# Altium schematic symbol library LTEWlib.SchLib: 128 symbols (part 1 of 2)
Pins are listed as number, name and electrical type; pins without a type are passive.

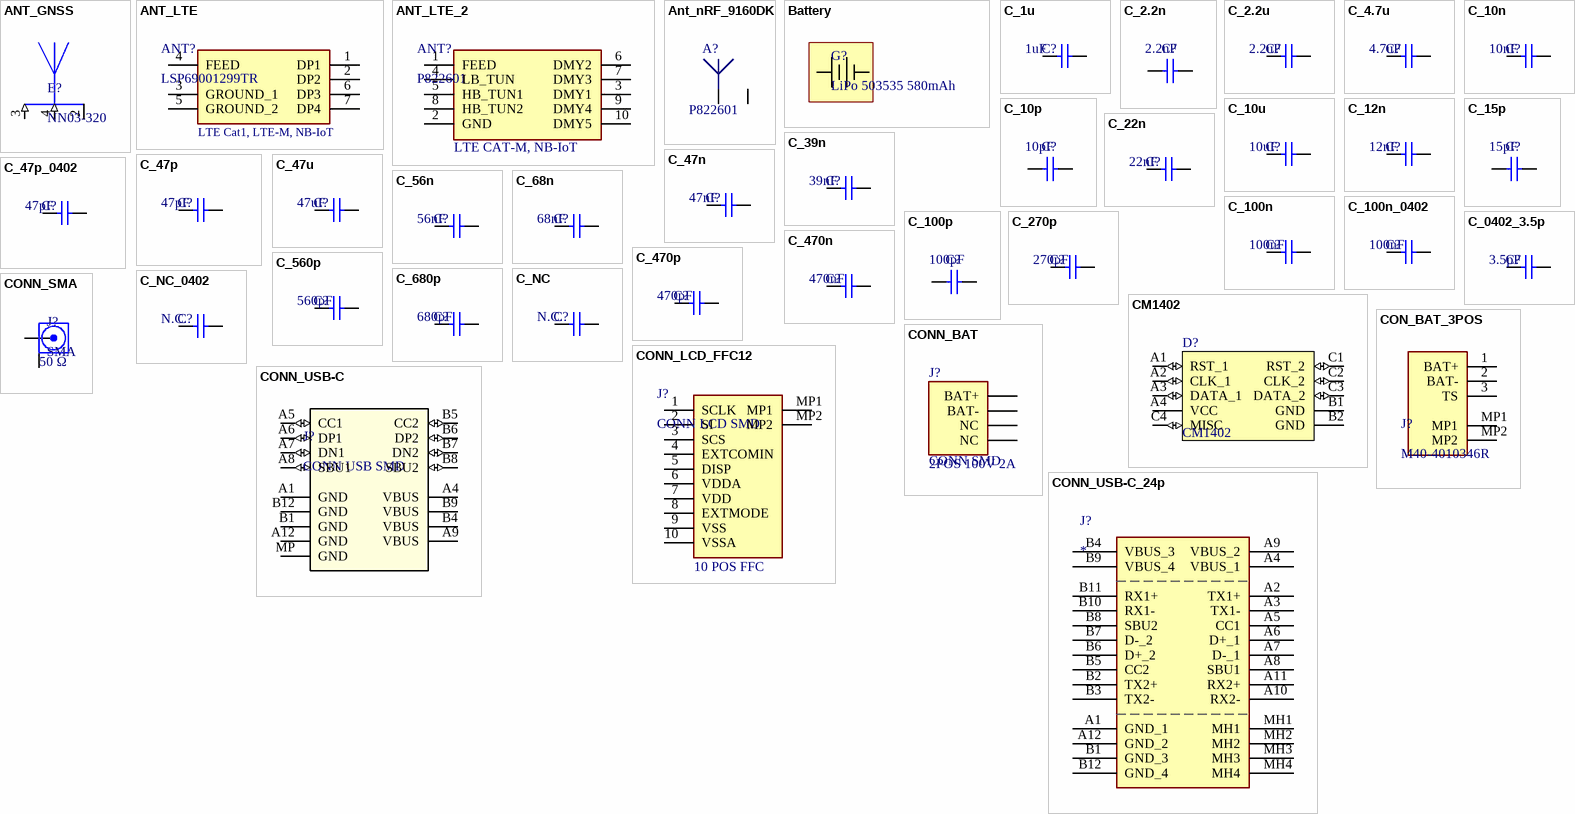
[diagram p0: symbols ANT_GNSS to CONN_USB-C_24p]

## ANT_GNSS
designator E?, comment NN03-320
Dual port antenna booster for GNSS, Bluetooth, 5G and UWB (1561 - 1606MHz, 2400 - 2500MHz, 3400 - 3800MHz, 3100 - 4800MHz and 6000 - 10600 MHz).; Manufacturer_Name: Ignion; SnapEDA_Link: https://www.snapeda.com/parts/NN03-320/Fractus%20Antennas%20S.L./view-part/4257250/?ref=snap; Purchase-URL: https://pricing.snapeda.com/search/part/NN03-320/?ref=eda; Availability: In Stock; MP: NN03-320; Value: *; Unit Price: 0.91; Package: None; Check_prices: https://www.snapeda.com/parts/NN03-320/Fractus%20Antennas%20S.L./view-part/4257250/?ref=eda; Supplier 1: Digi-Key; Supplier Part Number 1: 2115-NN03-320CT-ND; Manufacturer_Part_Number: NN03-320
footprint XCVR_NN03-320
pins: 2 GROUND (power), 3 FEED_BLUETOOTH (in), 4 FEED_GNSS (in)

## ANT_LTE
designator ANT?, comment LSP69001299TR  value LTE Cat1, LTE-M, NB-IoT
829MHz, 1.94GHz Cellular, LTE Cat 1, LTE-M, NB-IoT, loRa, SigFox Chip RF Antenna 698MHz ~ 960MHz, 1.71GHz ~ 2.17GHz -2dBi, 1.2dBi Solder Surface Mount; Manufacturer_Name: AVX; Datasheet Link: https://www.mouser.de/datasheet/2/40/AVX-E_LSP69001299TR-1772522.pdf; Height: 3.3mm; Manufacturer_Part_Number: LSP69001299TR; Mouser Part Number: 581-LSP69001299TR; Mouser Price/Stock: https://www.mouser.co.uk/ProductDetail/AVX/LSP69001299TR?qs=d0WKAl%252BL4KbuKFPrwvdB6g%3D%3D; Supplier 1: Digi-Key; Supplier Part Number 1: 478-LSP69001299TR-ND
footprint LSP69001299TR
pins: 1 DP1, 2 DP2, 3 GROUND_1, 4 FEED, 5 GROUND_2, 6 DP3, 7 DP4

## ANT_LTE_2
designator ANT?, comment P822601  value LTE CAT-M, NB-IoT
700MHz, 750MHz, 850MHz, 900MHz, 1.8GHz, 1.9GHz, 2.1GHz, 2.7GHz CDMA, DCS, EDGE, GPRS, GSM, HSDPA, LTE, PCS, UMTS, WCDMA Flat Bar RF Antenna 700MHz ~ 787MHz, 824MHz ~ 960MHz, 1.71GHz ~ 2.17GHz, 2.5GHz ~ 2.7GHz 1.1dBi, 1.7dBi, 1.8dBi, 2.2dBi, 3.9dBi, 3.8dBi, 3.4dBi, 3.6dBi Solder Surface Mount; Manufacturer_Name: AVX; Datasheet Link: http://datasheets.avx.com/ethertronics/AVX-E_P822601-P822602.pdf; Height: 3.5mm; Manufacturer_Part_Number: P822601; Mouser Part Number: 581-P822601; Mouser Price/Stock: https://www.mouser.co.uk/ProductDetail/AVX/P822601?qs=vdi0iO8H4N0igrTLYxGIXg%3D%3D; Arrow Part Number: P822601; Arrow Price/Stock: https://www.arrow.com/en/products/p822601/avx?region=nac; Supplier 1: Digi-Key; Supplier Part Number 1: 939-1057-1-ND
footprint P822601
pins: 1 FEED, 2 GND, 3 DMY1, 4 LB_TUN, 5 HB_TUN1, 6 DMY2, 7 DMY3, 8 HB_TUN2, 9 DMY4, 10 DMY5

## Ant_nRF_9160DK
designator A?, comment P822601
ANTENNA PRESTTA OCTABAND LTE; Manufacturer_Name: Ethertronics; Part number IPS: 00000009001; Note: N.A.; Pad Count: 2; Part Number: P822601; Manufacturer_Part_Number: P822601; Footprint Doc: P822601; LatestRevisionDate: 2017-07-28; Published: 2017-07-28; Value: P822601; Artikkelnr Noca: N.A.; ComponentLink1URL: N.A.; ComponentLink1Description: Datasheet; ComponentLink2URL: N.A.; ComponentLink2Description: Supplier link; HelpURL: http://www.ethertronics.com/wp-content/uploads/2016/11/Prestta-P822601-P822602-Standard-Cellular-Octa-Band-20160904.pdf; PartId: 100700043; Component Class: Antennas; Supplier 1: Digi-Key; Unit Price: 3.41; Supplier Part Number 1: 939-1057-1-ND
footprint P822601
pins: 1, 2

## Battery
designator G?, comment LiPo 503535 580mAh
503535 3.8v 580mAh round lipo battery cells / (Order : shorturl.at/tEFMZ); ComponentLink1Description: Order; ComponentLink1URL: https://batteryzone.de/products/503535-580mah-hochspannung-3-8v-runde-polymer-smart-watch-moxibustion-instrument-auto-smart-box-batterie?_pos=1&_sid=59cfd2d74&_ss=r; Value: LiPo 503535 580mAh; Unit Price: 12.50; Manufacturer_Part_Number: https://batteryzone.de/products/503535-580mah-hochspannung-3-8v-runde-polymer-smart-watch-moxibustion-instrument-auto-smart-box-batterie?_pos=1&_sid=59cfd2d74&_ss=r; Manufacturer_Name: -; Supplier Part Number 1: https://batteryzone.de/products/503535-580mah-hochspannung-3-8v-runde-polymer-smart-watch-moxibustion-instrument-auto-smart-box-batterie?_pos=1&_sid=59cfd2d74&_ss=r
footprint Battery_Lipo_503535 (580mAh)

## C_1u
designator C?, comment 1uF
1 µF ±10% 25V Ceramic Capacitor X7R 0603 (1608 Metric); Manufacturer_Part_Number: CL10B105KA8NNNC; Manufacturer_Name: Samsung Electro-Mechanics; Value: 1uF; Supplier 1: Mouser; Supplier Part Number 1: 187-CL10B105KA8NNNC; Price Unit: 0.10
footprint C0603 (SMD 0603)
pins: 1, 2

## C_2.2n
designator C?, comment 2.2nF
2200 pF ±5% 25V Ceramic Capacitor X7R 0603 (1608 Metric); Manufacturer_Part_Number: 06033C222JAT2A; Manufacturer_Name: KYOCERA AVX; Value: 2.2nF; Unit Price: 0.10; Supplier 1: Digi-Key; Supplier Part Number 1: 478-12683-1-ND
footprint C0603 (SMD 0603)
pins: 1, 2

## C_2.2u
designator C?, comment 2.2uF
2.2 µF ±20% 25V Ceramic Capacitor X7R 0603 (1608 Metric); Manufacturer_Part_Number: GRM188Z71E225ME43D; Manufacturer_Name: Murata Electronics; Value: 2.2uF; Supplier 1: Digi-Key; Supplier Part Number 1: 490-GRM188Z71E225ME43DCT-ND; Unit Price: 0.240
footprint CAPC2012X11L
pins: 1, 2

## C_4.7u
designator C?, comment 4.7uF
4.7 µF ±10% 25V Condensateurs céramique X6S 0603 (1608 métrique); Manufacturer_Part_Number: GRM188C81E475KE11D; Manufacturer_Name: Murata Electronics; Supplier 1: Digi-Key; Value: 4.7uF; Supplier Part Number 1: 490-7199-1-ND; Unit Price: 0.24
footprint C0603 (SMD 0603)
pins: 1, 2

## C_10n
designator C?, comment 10nF
10000 pF ±5% 25V Condensateurs céramique C0G, NP0 0603 (1608 métrique); Manufacturer_Part_Number: C1608C0G1E103J080AA; Manufacturer_Name: TDK Corporation; Value: 10nF; Supplier 1: Digi-Key; Supplier Part Number 1: 445-2664-1-ND; Unit Price: 0.270
footprint C0603 (SMD 0603)
pins: 1, 2

## C_10p
designator C?, comment 10pF
10 pF ±5% 50V Ceramic Capacitor C0G, NP0 0603 (1608 Metric); Manufacturer_Part_Number: 06035A100JAT2A; Manufacturer_Name: KYOCERA AVX; Supplier 1: Digi-Key; Value: 10pF; Supplier Part Number 1: 478-1163-1-ND; Unit Price: 0.10
footprint C0603 (SMD 0603)
pins: 1, 2

## C_10u
designator C?, comment 10uF
10 µF ±10% 25V Ceramic Capacitor X5R 0805 (2012 Metric); Manufacturer_Part_Number: GRM188R61E106KA73J; Manufacturer_Name: Murata Electronics; Supplier 1: Mouser; Value: 10uF; Supplier Part Number 1: 81-GRM188R61E106KA3J; Unit Price: 0.280
footprint C0603 (SMD 0603)
pins: 1, 2

## C_12n
designator C?, comment 12nF
0.012 µF ±10% 25V Ceramic Capacitor X7R 0603 (1608 Metric); Manufacturer_Part_Number: CC0603KRX7R8BB123; Manufacturer_Name: YAGEO; Value: 12nF; Supplier 1: Digi-Key; Supplier Part Number 1: 311-3371-1-ND; Unit Price: 0.110
footprint C0603 (SMD 0603)
pins: 1, 2

## C_15p
designator C?, comment 15pF
15 pF ±5% 25V Ceramic Capacitor C0G, NP0 0603 (1608 Metric); Manufacturer_Part_Number: 06033A150JAT2A; Manufacturer_Name: KYOCERA AVX; Value: 15pF; Supplier 1: Digi-Key; Supplier Part Number 1: 478-10804-1-ND; Unit Price: *
footprint C0603 (SMD 0603)
pins: 1, 2

## C_22n
designator C?, comment 22nF
0.022 µF ±10% 25V Ceramic Capacitor X7R 0603 (1608 Metric); Manufacturer_Part_Number: C0603C223K3RAC7867; Manufacturer_Name: KEMET; Value: 22nF; Supplier 1: Digi-Key; Supplier Part Number 1: 399-C0603C223K3RAC7867CT-ND; Unit Price: 0.100
footprint C0603 (SMD 0603)
pins: 1, 2

## C_39n
designator C?, comment 39nF
0.039 µF ±10% 50V Ceramic Capacitor X7R 0603 (1608 Metric); Manufacturer_Part_Number: 0603B393K500CT; Manufacturer_Name: Walsin Technology Corporation; Value: 39nF; Unit Price: 0.10; Supplier 1: Digi-Key; Supplier Part Number 1: 1292-1436-1-ND
footprint C0603 (SMD 0603)
pins: 1, 2

## C_47n
designator C?, comment 47nF
0.047 µF ±10% 25V Ceramic Capacitor X7R 0603 (1608 Metric); Manufacturer_Part_Number: 06033C473KAT2A; Manufacturer_Name: KYOCERA AVX; Value: 47nF; Unit Price: 0.10; Supplier 1: Digi-Key; Supplier Part Number 1: 478-1235-6-ND
footprint C0603 (SMD 0603)
pins: 1, 2

## C_47p
designator C?, comment 47pF
47 pF ±5% 25V Ceramic Capacitor C0G, NP0 0603 (1608 Metric); Manufacturer_Part_Number: C0603C470J3GAC7867; Manufacturer_Name: KEMET; Value: 47pF; Supplier 1: Digi-Key; Supplier Part Number 1: 399-C0603C470J3GAC7867CT-ND; Unit Price: 0.130
footprint C0603 (SMD 0603)
pins: 1, 2
text: /

## C_47p_0402
designator C?, comment 47pF
47 pF ±5% 25V Ceramic Capacitor C0G, NP0 0402 (1005 Metric); Manufacturer_Part_Number: 0402N470J250CT; Manufacturer_Name: KEMET; Value: 47pF; Unit Price: 0.130; Supplier 1: Digi-Key; Supplier Part Number 1: 1292-1324-1-ND
footprint CAPC1005X55N
pins: 1, 2
text: /

## C_47u
designator C?, comment 47uF
47 µF ±20% 10V Ceramic Capacitor X5R 0805 (2012 Metric); Manufacturer_Part_Number: GRM21BR61A476ME15L; Manufacturer_Name: Murata Electronics; Value: 47uF; Supplier 1: Digi-Key; Supplier Part Number 1: 490-9961-1-ND; Unit Price: 0.66
footprint CAPC2012X11L
pins: 1, 2

## C_56n
designator C?, comment 56nF
0.056 µF ±10% 25V Ceramic Capacitor X7R 0603 (1608 Metric); Manufacturer_Part_Number: CC0603KRX7R8BB563; Manufacturer_Name: YAGEO; Value: 56nF; Supplier 1: Digi-Key; Supplier Part Number 1: 311-4089-1-ND; Unit Price: 0.10
footprint C0603 (SMD 0603)
pins: 1, 2

## C_68n
designator C?, comment 68nF
0.068 µF ±10% 25V Ceramic Capacitor X7R 0603 (1608 Metric); Manufacturer_Part_Number: 0603B683K250CT; Manufacturer_Name: Walsin Technology Corporation; Value: 68nF; Unit Price: 0.10; Supplier 1: Digi-Key; Supplier Part Number 1: 1292-1462-1-ND
footprint C0603 (SMD 0603)
pins: 1, 2

## C_100n
designator C?, comment 100nF
0.1 µF ±10% 25V Condensateurs céramique X7R 0603 (1608 métrique); Manufacturer_Part_Number: CL10B104KA8NNNC; Manufacturer_Name: Samsung Electro-Mechanics; Supplier 1: Digi-Key; Value: 100nF; Supplier Part Number 1: 1276-1006-1-ND; Unit Price: 0.10
footprint C0603 (SMD 0603)
pins: 1, 2

## C_100n_0402
designator C?, comment 100nF
0.1 µF ±10% 25V Ceramic Capacitor X7R 0402 (1005 Metric); Manufacturer_Part_Number: CL05B104KA5NNNC; Manufacturer_Name: Samsung Electro-Mechanics; Value: 100nF; Unit Price: 0.10; Supplier 1: Digi-Key; Supplier Part Number 1: 1276-6720-1-ND
footprint C0603 (SMD 0603)
pins: 1, 2

## C_100p
designator C?, comment 100pF
100 pF ±5% 25V Ceramic Capacitor C0G, NP0 0603 (1608 Metric); Manufacturer_Part_Number: 06033A101JAT2A; Manufacturer_Name: KYOCERA AVX; Value: 100pF; Unit Price: 0.10; Supplier 1: Digi-Key; Supplier Part Number 1: 478-06033A101JAT2ACT-ND
footprint C0603 (SMD 0603)
pins: 1, 2

## C_270p
designator C?, comment 270pF
270 pF ±1% 25V Ceramic Capacitor C0G, NP0 0603 (1608 Metric); Manufacturer_Part_Number: VJ0603A271FXXCW1BC; Manufacturer_Name: Vishay Vitramon; Value: 270pF; Supplier 1: Digi-Key; Supplier Part Number 1: 720-VJ0603A271FXXCW1BCCT-ND; Unit Price: 0.300
footprint C0603 (SMD 0603)
pins: 1, 2

## C_0402_3.5p
designator C?, comment 3.5pF
3.5 pF ±0,1pF 50V Condensateurs céramique C0G, NP0 0402 (1005 métrique); Manufacturer_Part_Number: GJM1555C1H3R5BB01D; Manufacturer_Name: Murata Electronics; Value: 3.5pF; Supplier 1: Mouser; Supplier Part Number 1: 81-GJM1555C1H3R5BB1D; Unit Price: 0.180
footprint CAPC1005X55N
pins: 1, 2

## C_470n
designator C?, comment 470nF
0.47 µF ±10% 25V Ceramic Capacitor X7R 0603 (1608 Metric); Manufacturer_Part_Number: GRM188R71E474KA12D; Manufacturer_Name: Murata Electronics; Value: 470nF; Supplier 1: Digi-Key; Supplier Part Number 1: 490-3291-1-ND; Unit Price: 0.17
footprint C0603 (SMD 0603)
pins: 1, 2

## C_470p
designator C?, comment 470pF
470 pF ±10% 50V Ceramic Capacitor X7R 0603 (1608 Metric); Manufacturer_Part_Number: C0603C471K5RAC7867; Manufacturer_Name: KEMET; Value: 470pF; Supplier 1: Digi-Key; Supplier Part Number 1: 399-C0603C471K5RAC7867TR-ND; Unit Price: 0.10
footprint C0603 (SMD 0603)
pins: 1, 2

## C_560p
designator C?, comment 560pF
560 pF ±5% 25V Ceramic Capacitor C0G, NP0 0603 (1608 Metric); Manufacturer_Part_Number: CC0603JRNPO8BN561; Manufacturer_Name: YAGEO; Value: 560pF; Supplier 1: Digi-Key; Supplier Part Number 1: 311-3957-1-ND; Unit Price: 0.110
footprint C0603 (SMD 0603)
pins: 1, 2

## C_680p
designator C?, comment 680pF
680 pF ±10% 25V Ceramic Capacitor X7R 0603 (1608 Metric); Manufacturer_Part_Number: 06033C681K4Z2A; Manufacturer_Name: KYOCERA AVX; Value: 680pF; Supplier 1: Digi-Key; Supplier Part Number 1: 478-06033C681K4Z2ACT-ND; Unit Price: 0.11
footprint C0603 (SMD 0603)
pins: 1, 2

## C_NC
designator C?, comment N.C.
NC; Value: N.C.
footprint C0603 (SMD 0603)
pins: 1, 2

## C_NC_0402
designator C?, comment N.C.
NC; Value: N.C.
footprint CAPC1005X55N
pins: 1, 2

## CM1402
designator D?
EMI Network Filter Arrays SIM CARD EMI FILTER WITH ESD PROTECTION; Manufacturer: ON Semiconductor; Manufacturer Part Number: CM1402-03CP; Part number IPS: 00000009949; Note: N.A.; Pad Count: 10; Part Number: CM1402; Footprint Doc: CM1402; LatestRevisionDate: 2017-02-06; Published: 2017-02-06; Value: CM1402; Artikkelnr Noca: N.A.; ComponentLink1URL: N.A.; ComponentLink1Description: Datasheet; ComponentLink2URL: N.A.; ComponentLink2Description: Supplier link; HelpURL: http://www.onsemi.com/pub_link/Collateral/CM1402-D.PDF; Supplier 1: Digi-Key; Supplier Part Number 1: CM1402-03CPOSTR-ND; Supplier 2: Mouser; Supplier Part Number 2: 748-CM1402-03CP; PartId: 101300139; Component Class: Semiconductors
footprint CM1402
pins: A1 RST_1 (io), A2 CLK_1 (io), A3 DATA_1 (io), A4 VCC (power), B1 GND (power), B2 GND (power), C1 RST_2 (io), C2 CLK_2 (io), C3 DATA_2 (io), C4 MISC (io)

## CON_BAT_3POS
designator J?, comment M40-4010346R
Connector Header Surface Mount, Right Angle 3 position 0.039" (1.00mm); Manufacturer_Name: Harwin; Datasheet Link: https://cdn.harwin.com/pdfs/M40-401.pdf; Height: 3.25mm; Manufacturer_Part_Number: M40-4010346R; Mouser Part Number: 855-M40-4010346R; Mouser Price/Stock: https://www.mouser.co.uk/ProductDetail/Harwin/M40-4010346R?qs=ulE8k0yEMYbY8tNiZulTaA%3D%3D; Supplier 1: Digi-Key; Supplier Part Number 1: M40-4010346R-ND
footprint M404010346R
pins: 1 BAT+, 2 BAT-, 3 TS, MP1, MP2

## CONN_BAT
designator J?, comment CONN SMD  value 2POS 100V 2A
Connector Header Surface Mount, Right Angle 2 position 0.079" (2.00mm); Manufacturer_Name: Wurth Elektronik; Manufacturer_Part_Number: 620102131822; Datasheet Link: https://componentsearchengine.com/Datasheets/2/620102131822.pdf; Height: 5.8mm; Mouser Part Number: 710-620102131822; Mouser Price/Stock: https://www.mouser.co.uk/ProductDetail/Wurth-Elektronik/620102131822?qs=ZtY9WdtwX54K2dkLvxjzuQ%3D%3D; Supplier 1: Digi-Key; Supplier Part Number 1: 732-2711-1-ND
footprint 620102131822
pins: 1 BAT+ (power), 2 BAT- (power), 3 NC, 4 NC

## CONN_LCD_FFC12
designator J?, comment CONN LCD SMD  value 10 POS FFC
10 Position FFC, FPC Connector Contacts, Top 0.020" (0.50mm) Surface Mount, Right Angle; Manufacturer_Name: Hirose; Manufacturer_Part_Number: FH12A-10S-0.5SH(55); Datasheet Link: https://componentsearchengine.com/Datasheets/1/FH12A-10S-0.5SH(55).pdf; Height: 3.6mm; Supplier 1: Digi-Key; Supplier Part Number 1: HFK110CT-ND; Unit Price: 1.34
footprint FH12A10S05SH55
pins: 1 SCLK, 2 SI, 3 SCS, 4 EXTCOMIN, 5 DISP, 6 VDDA, 7 VDD, 8 EXTMODE, 9 VSS, 10 VSSA, MP1, MP2

## CONN_SMA
designator J?, comment SMA  value 50 Ω
SMA Connector Jack, Female Socket 50Ohm Surface Mount Solder; Manufacturer_Name: Molex; Manufacturer_Part_Number: 73251-1352; Datasheet Link: http://www.molex.com/webdocs/datasheets/pdf/en-us//0732511352_RF_COAX_CONNECTORS.pdf; Supplier 1: Digi-Key; Supplier Part Number 1: WM9357-ND; Unit Price: 5.02
footprint 73251-1350
footprint 73251-1350 - GNSS
footprint 73251-1350 - LTE
pins: 1, 2, 3, 4, 5

## CONN_USB-C
designator J?, comment CONN USB SMD
USB-C (USB TYPE-C) USB 2.0 Prise Connecteur 24 (16+8 Factice) Positions Montage en surface à angle droit; Mfr_Name: Global Connector Technology; Manufacturer_Part_Number: USB4110-GF-A; Value: USB2.0 TYP C 24P; Copyright: Copyright (C) 2022 Ultra Librarian. All rights reserved.; RefDes: RefDes; Type: DEV; Supplier 1: Farnell; Supplier Part Number 1: 3583367
footprint USB4110GFA
pins: A1 GND, A4 VBUS (power), A5 CC1 (io), A6 DP1 (io), A7 DN1 (io), A8 SBU1 (io), A9 VBUS (power), A12 GND, B1 GND, B4 VBUS (power), B5 CC2 (io), B6 DP2 (io), B7 DN2 (io), B8 SBU2 (io), B9 VBUS (power), B12 GND, MP GND

## CONN_USB-C_24p
designator J?
USB-C (USB TYPE-C) USB 3.2 Gen 2 (USB 3.1 Gen 2, Superspeed + (USB 3.1)) Receptacle Connector 24 Position Surface Mount, Right Angle; Through Hole; Manufacturer: Amphenol Communication Solutions; Manufacturer_Part_Number: 12401598E4#2A; Datasheet Link: https://cdn.amphenol-icc.com/media/wysiwyg/files/drawing/12401598xxx2a.pdf; Height: 3.43mm; Supplier 1: Mouser; Supplier Part Number 1: 523-12401598E4#2A; Unit Price: 1.61
footprint 12401598E42A
footprint 12401598E42A - JTAG
footprint 12401598E42A - USB
pins: A1 GND_1, A2 TX1+, A3 TX1-, A4 VBUS_1, A5 CC1, A6 D+_1, A7 D-_1, A8 SBU1, A9 VBUS_2, A10 RX2-, A11 RX2+, A12 GND_2, B1 GND_3, B2 TX2+, B3 TX2-, B4 VBUS_3, B5 CC2, B6 D+_2, B7 D-_2, B8 SBU2, B9 VBUS_4, B10 RX1-, B11 RX1+, B12 GND_4, MH1, MH2, MH3, MH4

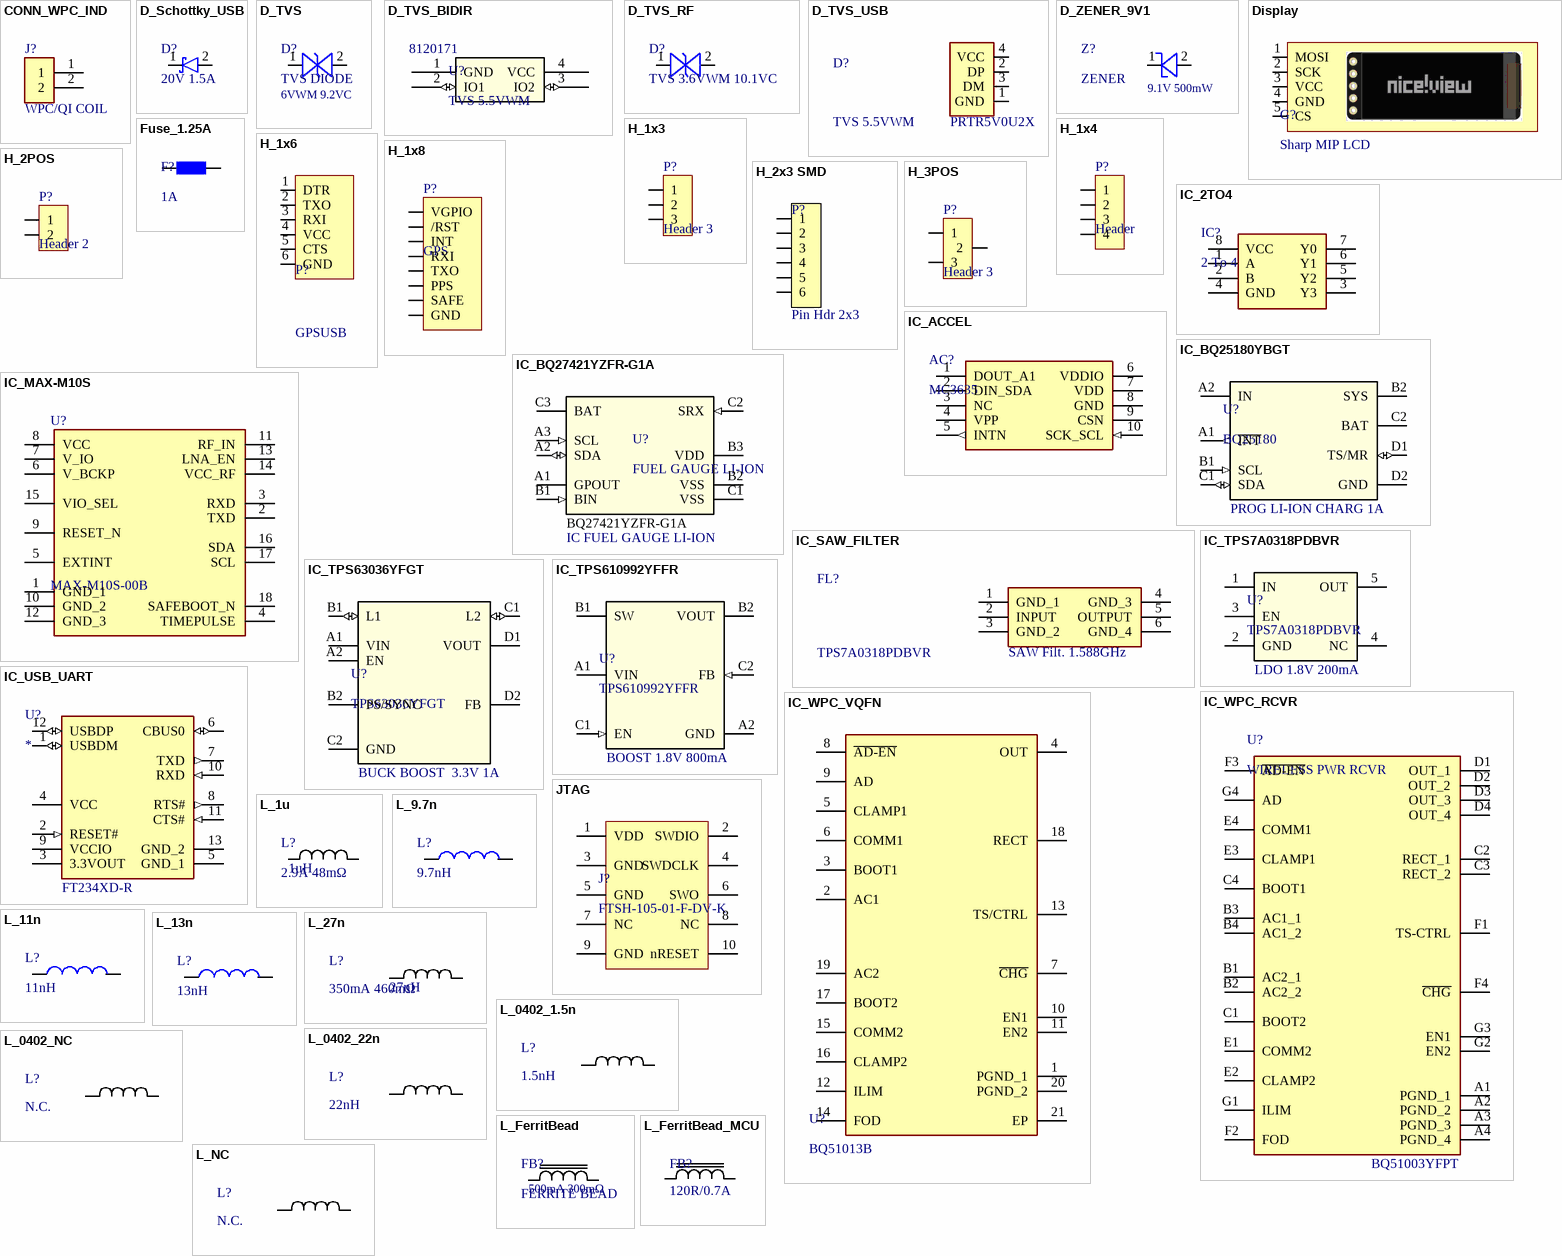
[diagram p1: symbols CONN_WPC_IND to L_NC]

## CONN_WPC_IND
designator J?, comment WPC/QI COIL
2 Position Wire to Board Terminal Block Horizontal with Board 0.138" (3.50mm) Surface Mount; Manufacturer_Name: TE Connectivity; Manufacturer_Part_Number: 2383942-2; Datasheet Link: https://www.te.com/commerce/DocumentDelivery/DDEController?Action=showdoc&DocId=Customer+Drawing%7F2383942%7FA1%7Fpdf%7FEnglish%7FENG_CD_2383942_A1.pdf%7F2383942-2; Height: 8.65mm; Supplier 1: Digi-Key; Supplier Part Number 1: 17-2383942-2CT-ND; Unit Price: 2.77
footprint 23839422
pins: 1, 2

## D_Schottky_USB
designator D?, comment 20V 1.5A
Diode Schottky 20 V 1.5A Surface Mount CST2C; Manufacturer_Name: Toshiba; Manufacturer_Part_Number: CCS15S30,L3F; Datasheet Link: https://toshiba.semicon-storage.com/info/docget.jsp?did=13923&prodName=CCS15S30; Height: 0.5mm; Supplier 1: Digi-Key; Supplier Part Number 1: CCS15S30L3FCT-ND; Unit Price: 0.39
footprint CCS15S30L3F
pins: 1 K, 2 A

## D_TVS
designator D?, comment TVS DIODE  value 6VWM 9.2VC
9.2V Clamp 5A (8/20µs) Ipp Tvs Diode Surface Mount SOD-882; Manufacturer_Name: LITTELFUSE; Manufacturer_Part_Number: SP1007-01ETG; Datasheet Link: https://www.littelfuse.com/~/media/electronics/datasheets/tvs_diode_arrays/littelfuse_tvs_diode_array_sp1007_datasheet.pdf.pdf; Height: 0.6mm; Supplier 1: Digi-Key; Supplier Part Number 1: F6187CT-ND; Unit Price: 0.40
footprint SP100701ETG
pins: 1, 2

## D_TVS_BIDIR
designator U?, comment TVS 5.5VWM  Supplier Part Number 1: 8120171
Clamp Ipp Tvs Diode Surface Mount 4-SOP; Manufacturer_Name: Texas Instruments; Manufacturer_Part_Number: TPD2E001DZDR; Copyright: Copyright (C) 2022 Ultra Librarian. All rights reserved.; Type: DEV; Unit Price: 0.748; Supplier 1: RSComponents
footprint DZD4
pins: 1 GND (power), 2 IO1 (io), 3 IO2 (io), 4 VCC (power)

## D_TVS_RF
designator D?, comment TVS 3.6VWM 10.1VC
10.1V Clamp 1.7A (8/20µs) Ipp Tvs Diode Surface Mount 2-X2SON (0.6x0.3); Manufacturer_Name: LITTELFUSE; Manufacturer_Part_Number: TPD1E0B04DPLT; Datasheet Link: https://www.ti.com/lit/gpn/tpd1e0b04?HQS=ti-null-null-sf-df-pf-sep-wwe&DCM=yes; Height: 0.32mm; Supplier 1: Digi-Key; Supplier Part Number 1: 296-44593-1-ND; Unit Price: 0.94
footprint TPD1E0B04DPLT
pins: 1, 2

## D_TVS_USB
designator D?, comment TVS 5.5VWM  Manufacturer_Part_Number: PRTR5V0U2X
Clamp Ipp Tvs Diode Surface Mount SOT-143B; Manufacturer_Name: Nexperia; Datasheet Link: https://assets.nexperia.com/documents/data-sheet/PRTR5V0U2X.pdf; Height: 1.1mm; Supplier 1: Digi-Key; Supplier Part Number 1: 1727-3884-1-ND; Unit Price: 0.52
footprint PRTR5V0U2X
pins: 1 GND, 2 DP, 3 DM, 4 VCC (power)

## D_ZENER_9V1
designator Z?, comment ZENER  value 9.1V 500mW
Zener Diode 9.1 V 500 mW ±6% Surface Mount SOD-123; Manufacturer_Name: Diodes Inc.; Manufacturer_Part_Number: BZT52C9V1S-7-F; Datasheet Link: https://www.diodes.com/assets/Datasheets/ds18004.pdf; Height: 1.45mm; Supplier 1: Digi-Key; Supplier Part Number 1: BZT52C9V1-FDICT-ND; Unit Price: 0.30
footprint SOD3716X145N
pins: 1 K, 2 A

## Display
designator G?, comment Sharp MIP LCD
503535 3.8v 580mAh round lipo battery cells / (Order : shorturl.at/tEFMZ); Manufacturer_Part_Number: LS011B7DH03; ComponentLink1Description: Order; ComponentLink1URL: https://keycapsss.com/keyboard-parts/parts/219/nice-view-1.08-e-paper-display; Value: Sharp MIP LCD; ComponentLink2Description: Info; ComponentLink2URL: https://nicekeyboards.com/docs/nice-view/getting-started/; Manufacturer_Name: Sharp; Unit Price: 21.00; Supplier Part Number 1: https://keycapsss.com/keyboard-parts/parts/219/nice-view-1.08-e-paper-display
footprint SHARP_MIP_LCD (Connector; Header; 3 Position)
pins: 1 MOSI, 2 SCK, 3 VCC, 4 GND, 5 CS

## Fuse_1.25A
designator F?, comment 1A
1.25 A AC 32 V DC Fuse Board Mount (Cartridge Style Excluded) Surface Mount 0603 (1608 Metric); Manufacturer_Part_Number: SF-0603S125-2; Manufacturer_Name: Bourns Inc.; Value: 1A; Unit Price: 0.79; Supplier 1: Digi-Key; Supplier Part Number 1: SF-0603S125-2CT-ND
simulation model FUSE (Spice Subcircuit)
footprint C0603 (SMD 0603)
pins: 1, 2

## H_1x3
designator P?, comment Header 3
Header, 3-Pin; Manufacturer_Name: Harwin Inc.; Manufacturer_Part_Number: M20-9990345; Publisher: Altium Limited; Supplier 1: Digi-key; Supplier Part Number 1: 952-2263-ND; Unit Price: 0.17
footprint HDR1X3 (Connector; Header; 3 Position)
signal-integrity model Connector
footprint HDR1X3 - COEX (Connector; Header; 3 Position)
footprint HDR1X3 - DISP_EN (Connector; Header; 3 Position)
footprint HDR1X3 - EXT_MODE (Connector; Header; 3 Position)
footprint HDR1X3 - M/L (Connector; Header; 3 Position)
footprint HDR1X3 - MOTOR (Connector; Header; 3 Position)
footprint HDR1X3 - VGPIO (Connector; Header; 3 Position)
footprint HDR1X3 - SPI (Connector; Header; 3 Position)
pins: 1, 2, 3

## H_1x4
designator P?, comment Header
Header, 3-Pin; LatestRevisionDate: 17-Jul-2002; LatestRevisionNote: Re-released for DXP Platform.; Publisher: Altium Limited
footprint HDR1X4 (Connector; Header; 3 Position)
signal-integrity model Connector
pins: 1, 2, 3, 4

## H_1x6
designator P?, comment GPSUSB
Header, 6-Pin; Manufacturer_Part_Number: 61300611121; Manufacturer_Name: Würth Elektronik; Publisher: Altium Limited; Unit Price: 0.35; Supplier 1: Digi-Key; Supplier Part Number 1: 732-5319-ND
footprint HDR1X6 - GPS (Connector; Header; 3 Position)
signal-integrity model Connector
pins: 1 DTR, 2 TXO, 3 RXI, 4 VCC, 5 CTS, 6 GND

## H_1x8
designator P?, comment GPS
Header, 8-Pin
footprint HDR1X4 (Connector; Header; 3 Position)
signal-integrity model Connector
pins: 1 /RST, 2 INT, 3 PPS, 4 RXI, 5 TXO, 6 SAFE, 7 VGPIO, 8 GND

## H_2POS
designator P?, comment Header 2
Header, 2-Pin; Manufacturer_Part_Number: 10129378-902001BLF; Manufacturer_Name: Amphenol ICC (FCI); Supplier 1: Mouser; Supplier Part Number 1: 649-1012937890201BLF; Unit Price: 0.10
footprint HDR1X2 (Connector; Header; 2 Position)
signal-integrity model Connector
footprint HDR1X2 - IMEAS (Connector; Header; 2 Position)
footprint HDR1X2 - VLED (Connector; Header; 2 Position)
footprint HDR1X2 - GPSRST (Connector; Header; 2 Position)
footprint HDR1X2 - GPSSAFEBOOT (Connector; Header; 2 Position)
footprint HDR1X2 - UART (Connector; Header; 2 Position)
footprint HDR1X2 - ACCEL (Connector; Header; 2 Position)
footprint HDR1X2 - VIN (Connector; Header; 2 Position)
footprint HDR1X2 - I2C (Connector; Header; 2 Position)
footprint HDR1X2 - +3V3 (Connector; Header; 2 Position)
footprint HDR1X2 - +VWPC (Connector; Header; 2 Position)
footprint HDR1X2 - +VBAT (Connector; Header; 2 Position)
pins: 1, 2

## H_2x3 SMD
designator P?, comment Pin Hdr 2x3
Pin Header 2x3, 2.54mm (100mil) SMD; Manufacturer Part Number: TSM-103-01-L-DV; Manufacturer_Name: Samtec Inc.; Value: Pin Hdr 2x3; ComponentLink1URL: N.A.; ComponentLink1Description: Datasheet; ComponentLink2URL: N.A.; ComponentLink2Description: Supplier link; Unit Price: 1.16; Supplier 1: Digi-Key; Supplier Part Number 1: SAM10786-ND
footprint HDR_2x3-SMD
pins: 1, 2, 3, 4, 5, 6

## H_3POS
designator P?, comment Header 3
Header, 3-Pin; Manufacturer_Part_Number: M20-9990345; Manufacturer_Name: Harwin Inc.; Unit Price: 0.17; Supplier 1: Digi-key; Supplier Part Number 1: 952-2263-ND
footprint HDR1X3 (Connector; Header; 3 Position)
signal-integrity model Connector
footprint HDR1X3 - VGPIO (Connector; Header; 3 Position)
footprint HDR1X3 - DISP_EN (Connector; Header; 3 Position)
footprint HDR1X3 - EXT_MODE (Connector; Header; 3 Position)
footprint HDR1X3 - MOTOR (Connector; Header; 3 Position)
footprint HDR1X3 - M/L (Connector; Header; 3 Position)
pins: 1, 2, 3

## IC_2TO4
designator IC?, comment 2 To 4
Decoder/Demultiplexer 1 x 2:4 SM8; Manufacturer_Name: Texas Instruments; Manufacturer_Part_Number: SN74LVC1G139DCTR; Datasheet Link: http://www.ti.com/lit/gpn/sn74lvc1g139; Height: 1.3mm; Supplier 1: Digi-Key; Supplier Part Number 1: 296-18235-1-ND; Unit Price: 0.88
footprint SOP65P400X130-8N
pins: 1 A, 2 B, 3 Y3, 4 GND, 5 Y2, 6 Y1, 7 Y0, 8 VCC

## IC_ACCEL
designator AC?, comment MC3635
Accéléromètres X, Y, Z Axis ±2g, 4g, 8g, 12g, 16g 10-LGA (1,6x1,6); Manufacturer_Name: Memsic Inc.; Datasheet Link: http://www.mcubemems.com/wp-content/uploads/2017/09/MC3635-Datasheet-APS-048-0044v1.5.pdf; Height: 0.94mm; Manufacturer_Part_Number: MC3635; Supplier 1: Mouser; Supplier Part Number 1: 498-MC3635; Unit Price: 2.52
footprint MC3635
pins: 1 DOUT_A1, 2 DIN_SDA, 3 NC, 4 VPP, 5 INTN (out), 6 VDDIO, 7 VDD, 8 GND (power), 9 CSN (power), 10 SCK_SCL (in)

## IC_BQ25180YBGT
designator U?, comment BQ25180  value PROG LI-ION CHARG 1A
Charger IC Lithium Ion/Polymer, Lithium Iron Phosphate 8-DSBGA; Manufacturer_Name: Texas Instruments; Manufacturer_Part_Number: BQ25180YBGR; Type: DEV; Copyright: Copyright (C) 2022 Ultra Librarian. All rights reserved.; Supplier 1: Mouser; Supplier Part Number 1: 595-BQ25180YBGR; Unit Price: 2.75
footprint BGA8C40P2X4_100X155X50
pins: A1 ~{INT} (out), A2 IN (power), B1 SCL (in), B2 SYS (power), C1 SDA (io), C2 BAT (power), D1 TS/MR (io), D2 GND (power)

## IC_BQ27421YZFR-G1A
designator U?, comment FUEL GAUGE LI-ION  value IC FUEL GAUGE LI-ION  Manufacturer_Part_Number: BQ27421YZFR-G1A
Battery Battery Monitor IC Lithium Ion 9-DSBGA; Manufacturer_Name: Texas Instruments; Alternate_PartNumber: BQ27421YZFT-G1A; Type: DEV; RefDes: RefDes; Copyright: Copyright (C) 2022 Ultra Librarian. All rights reserved.; CompType: IC; RoHS: Y; Supplier 1: Digi-Key; Supplier Part Number 1: 296-38880-1-ND; Unit Price: 2.54
footprint BGA9C50P3X3_162X158X62
pins: A1 GPOUT (oc), A2 SDA (io), A3 SCL (in), B1 BIN (in), B2 VSS (power), B3 VDD (power), C1 VSS (power), C2 SRX (in), C3 BAT (power)

## IC_MAX-M10S
designator U?, comment MAX-M10S-00B
MAX-M10 RF Receiver BeiDou, Galileo, GLONASS, GPS, GNSS 1.561GHz, 1.575GHz, 1.602GHz -167dBm 921.6kbps; Manufacturer_Name: U-Blox; Datasheet Link: https://content.u-blox.com/sites/default/files/MAX-M10S_IntegrationManual_UBX-20053088.pdf; Height: 2.7mm; Manufacturer_Part_Number: MAX-M10S-00B; Supplier 1: Mouser; Supplier Part Number 1: 377-MAX-M10S-00B; Unit Price: 20.79
footprint MAXM10S00B
pins: 1 GND_1, 2 TXD, 3 RXD, 4 TIMEPULSE, 5 EXTINT, 6 V_BCKP, 7 V_IO, 8 VCC, 9 RESET_N, 10 GND_2, 11 RF_IN, 12 GND_3, 13 LNA_EN, 14 VCC_RF, 15 VIO_SEL, 16 SDA, 17 SCL, 18 SAFEBOOT_N

## IC_SAW_FILTER
designator FL?, comment TPS7A0318PDBVR  value SAW Filt. 1.588GHz
1.588GHz Frequency GPS RF SAW Filter (Surface Acoustic Wave) 2dB 56MHz Bandwidth 6-SMD, No Lead; Manufacturer_Name: Qualcomm (RF front-end (RFFE) filters); Manufacturer_Part_Number: B39162B3913U410; Datasheet Link: https://www.mouser.at/datasheet/2/842/B3913-1092487.pdf; Height: 1.225mm; Supplier 1: Digi-Key; Supplier Part Number 1: B39162B3913U410CT-ND; Unit Price: 1.58
footprint B39162B3913U410
pins: 1 GND_1, 2 INPUT, 3 GND_2, 4 GND_3, 5 OUTPUT, 6 GND_4

## IC_TPS7A0318PDBVR
designator U?, comment TPS7A0318PDBVR  value LDO 1.8V 200mA
Linear Voltage Regulator IC Positive Fixed 1 Output 200mA SOT-23-5; Manufacturer_Name: Texas Instruments; Manufacturer_Part_Number: TPS7A0312PDBVR; Type: DEV; Supplier 1: Digi-Key; Copyright: Copyright (C) 2022 Ultra Librarian. All rights reserved.; Supplier Part Number 1: 296-TPS7A0318PDBVRCT-ND; Unit Price: 0.93
footprint SOT95P280X145-5N (SOT23, 5-Leads, Body 2.90x2.80mm, Pitch 0.95mm, IPC Medium Density)
pins: 1 IN, 2 GND, 3 EN, 4 NC, 5 OUT

## IC_TPS63036YFGT
designator U?, comment TPS63036YFGT  value BUCK BOOST  3.3V 1A
Buck-Boost Switching Regulator IC Positive Adjustable 1.2V 1 Output 1A (Switch) 8-UFBGA, DSBGA; Mfr_Name: Texas Instruments; Copyright: Copyright (C) 2022 Ultra Librarian. All rights reserved.; Supplier 1: Mouser; Supplier Part Number 1: 595-TPS63036YFGT; Manufacturer_Part_Number: TPS63036YFGT; Unit Price: 2.69
footprint BGA8C40P2X4_108X181X62 (Footprint not found)
pins: A1 VIN (power), A2 EN, B1 L1 (io), B2 PS/SYNC, C1 L2 (io), C2 GND, D1 VOUT (power), D2 FB

## IC_TPS610992YFFR
designator U?, comment TPS610992YFFR  value BOOST 1.8V 800mA
Boost Switching Regulator IC Positive Adjustable 1.8V 1 Output 800mA (Switch) 6-UFBGA, DSBGA; Manufacturer_Name: Texas Instruments; Manufacturer_Part_Number: TPS610992YFFT; Copyright: Copyright (C) 2022 Ultra Librarian. All rights reserved.; Supplier 1: Mouser; Supplier Part Number 1: 595-TPS610992YFFR; Unit Price: 2.08
footprint BGA6C40P2X3_88X123X62 (Footprint not found)
pins: A1 VIN (power), A2 GND (power), B1 SW (power), B2 VOUT (power), C1 EN (in), C2 FB (in)

## IC_USB_UART
designator U?  Manufacturer_Part_Number: FT234XD-R
USB Bridge, USB to UART USB 2.0 UART Interface 12-DFN (3x3); Manufacturer_Name: FTDI Chip; Datasheet Link: https://componentsearchengine.com/Datasheets/2/FT234XD-R.pdf; Height: 0.75mm; Supplier 1: Digi-Key; Supplier Part Number 1: 768-1178-1-ND; Unit Price: 2.24
footprint SON45P300X300X75-13N-D
pins: 1 USBDM (io), 2 RESET# (in), 3 3.3VOUT (power), 4 VCC (power), 5 GND_1 (power), 6 CBUS0 (io), 7 TXD (out), 8 RTS# (out), 9 VCCIO (power), 10 RXD (in), 11 CTS# (in), 12 USBDP (io), 13 GND_2 (power)

## IC_WPC_RCVR
designator U?, comment WIRELESS PWR RCVR  Manufacturer_Part_Number: BQ51003YFPT
Wireless Power Receiver PMIC 28-DSBGA; Manufacturer_Name: Texas Instruments; Datasheet Link: http://www.ti.com/lit/gpn/BQ51003; Height: 0.5mm; Supplier 1: Digi-Key; Supplier Part Number 1: 296-37245-1-ND; Unit Price: 1.77
footprint BGA28C40P4X7_188X301X50
pins: A1 PGND_1, A2 PGND_2, A3 PGND_3, A4 PGND_4, B1 AC2_1, B2 AC2_2, B3 AC1_1, B4 AC1_2, C1 BOOT2, C2 RECT_1, C3 RECT_2, C4 BOOT1, D1 OUT_1, D2 OUT_2, D3 OUT_3, D4 OUT_4, E1 COMM2, E2 CLAMP2, E3 CLAMP1, E4 COMM1, F1 TS-CTRL, F2 FOD, F3 ~{AD-EN}, F4 ~{CHG}, G1 ILIM, G2 EN2, G3 EN1, G4 AD

## IC_WPC_VQFN
designator U?, comment BQ51013B
Wireless Power Receiver PMIC 20-VQFN (3.5x4.5); Manufacturer_Name: Texas Instruments; Manufacturer_Part_Number: BQ51013BRHLR; Datasheet Link: http://www.ti.com/lit/ds/symlink/bq51013b.pdf; Unit Price: 3.9; Supplier 1: Mouser; Supplier Part Number 1: 595-BQ51013BRHLR
footprint BQ51050BRHLR
pins: 1 PGND_1, 2 AC1, 3 BOOT1, 4 OUT, 5 CLAMP1, 6 COMM1, 7 ~{CHG}, 8 ~{AD-EN}, 9 AD, 10 EN1, 11 EN2, 12 ILIM, 13 TS/CTRL, 14 FOD, 15 COMM2, 16 CLAMP2, 17 BOOT2, 18 RECT, 19 AC2, 20 PGND_2, 21 EP

## JTAG
designator J?, comment FTSH-105-01-F-DV-K
Connector Header Surface Mount 10 position 0.050" (1.27mm); Manufacturer_Name: Samtec Inc.; Value: FTSH-105-01-F-DV-K; Supplier 1: Digi-Key; Manufacturer_Part_Number: FTSH-105-01-F-DV-K; Supplier Part Number 1: SAM8796-ND; Unit Price: 4.00
footprint HDR_2x5-SMD-1.27mm-K
pins: 1 VDD, 2 SWDIO, 3 GND, 4 SWDCLK, 5 GND, 6 SWO, 7 NC, 8 NC, 9 GND, 10 nRESET

## L_1u
designator L?, comment 2.9A 48mΩ  value 1uH
1 µH Shielded Drum Core, Wirewound Inductor 2.9 A 48mOhm Max 0806 (2016 Metric); Manufacturer_Name: Murata Electronics; Manufacturer_Part_Number: DFE201612E-1R0M=P2; Copyright: Copyright (C) 2022 Ultra Librarian. All rights reserved.; Supplier 1: Digi-Key; Supplier Part Number 1: 490-16593-1-ND; Unit Price: 0.35
footprint 1286ASH1R0MP2
pins: 1, 2

## L_9.7n
designator L?, comment 9.7nH
9.7 nH Non blindé Bobiné Inducteur 1.4 A 81mOhms maxi 0402 (1005 métrique); Manufacturer_Name: Murata Electronics; Manufacturer_Part_Number: LQW15AN9N7G80D; Datasheet Link: https://datasheet.datasheetarchive.com/originals/distributors/Datasheets_SAMA/fbc87eb480f1703e4073bb137d632104.pdf; Height: 0.6mm; Value: 9.7nH; Unit Price: 0.25; Supplier 1: Mouser; Supplier Part Number 1: 81-LQW15AN9N7G80D
footprint LQW15AN10NG80D
pins: 1, 2

## L_11n
designator L?, comment 11nH
11 nH Unshielded Drum Core, Wirewound Inductor 1.4 A 65mOhm 0402 (1005 Metric); Manufacturer_Name: Delta Electronics/Components; Manufacturer_Part_Number: 0402HP-110EGTS; Datasheet Link: https://psearch.en.murata.com/inductor/product/LQW18AN11NG8Z%23.html; Height: 1mm; Value: 11nH; Unit Price: 0.24; Supplier 1: Digi-Key; Supplier Part Number 1: 2035-1078-1-ND
footprint LQW15AN10NG80D
pins: 1, 2

## L_13n
designator L?, comment 13nH
13 nH Unshielded Drum Core, Wirewound Inductor 870 mA 140mOhm 0402 (1005 Metric); Manufacturer_Name: Delta Electronics/Components; Manufacturer_Part_Number: 0402HP-130EGTS; Datasheet Link: https://psearch.en.murata.com/inductor/product/LQW18AN11NG8Z%23.html; Height: 1mm; Value: 13nH; Unit Price: 0.24; Supplier 1: Digi-Key; Supplier Part Number 1: 2035-1525-1-ND
footprint LQW15AN10NG80D
pins: 1, 2

## L_27n
designator L?, comment 350mA 460mΩ  value 27nH
27 nH Unshielded Multilayer Inductor 350 mA 460mOhm Max 0402 (1005 Metric); Manufacturer_Name: Murata Electronics; Manufacturer_Part_Number: LQG15HS27NJ02D; Datasheet Link: https://psearch.en.murata.com/inductor/product/LQG15HS27NJ02%23.html; Height: 0.55mm; Supplier 1: Digi-Key; Supplier Part Number 1: 490-2628-1-ND; Unit Price: 0.10
footprint LQG15WH0N7B02D
pins: 1, 2

## L_0402_1.5n
designator L?, comment 1.5nH
1.5 nH Non blindé Couche mince Inducteur 700 mA 250mOhms maxi 0402 (1005 métrique); Manufacturer_Name: Abracon LLC; Manufacturer_Part_Number: ATFC-0402-1N5B-T; Value: 1.5nH; Supplier 1: Digi-Key; Supplier Part Number 1: 535-10356-1-ND; Unit Price: 0.10
footprint INDC1005X37N
pins: 1, 2

## L_0402_22n
designator L?, comment 22nH
22 nH Non blindé Bobiné Inducteur 780 mA 202mOhms maxi 0402 (1005 métrique); Manufacturer_Part_Number: LQW15AN22NG80D; Manufacturer_Name: Murata Electronics; Value: 22nH; Supplier 1: Digi-Key; Unit Price: 0.25; Supplier Part Number 1: 490-7628-1-ND
footprint LQW15AN10NG80D
pins: 1, 2

## L_0402_NC
designator L?, comment N.C.
footprint INDC1005X37N
pins: 1, 2

## L_FerritBead
designator FB?, comment FERRITE BEAD  value 500mA 300mΩ
600 Ohms @ 100 MHz 1 Power, Signal Line Ferrite Bead 0805 (2012 Metric) 500mA 300mOhm; Manufacturer_Name: Laird Performance Materials; Manufacturer_Part_Number: HZ0805E601R-10; Datasheet Link: https://www.laird.com/sites/default/files/hz0805e601r-10-datasheet.pdf; Height: 1.1mm; Supplier 1: Digi-Key; Supplier Part Number 1: 240-2399-1-ND; Unit Price: 0.19
footprint BEADC2012X110N
pins: 1, 2

## L_FerritBead_MCU
designator FB?, comment 120R/0.7A
Ferrite Bead, 120 Ohm @ 100MHz, 700mA, 130 mOhm Max; Manufacturer_Name: Murata; Manufacturer Part Number: BLM15AX121SN1; ComponentLink1URL: https://www.murata.com/en-us/products/productdata/8796740059166/ENFA0018.pdf; ComponentLink1Description: Datasheet; ComponentLink2URL: N.A.; ComponentLink2Description: Supplier link; HelpURL: https://www.murata.com/products/productdetail?partno=BLM15AX121SN1%23; Footprint Doc: 0402; Value: 120R/0.7A; Supplier 1: Digi-Key; Unit Price: 0.10; Supplier Part Number 1: 490-5439-1-ND
footprint INDC1005X04L
pins: 1, 2

## L_NC
designator L?, comment N.C.
Manufacturer_Name: Murata Electronics; Manufacturer_Part_Number: LQG15HS27NJ02D; Datasheet Link: https://psearch.en.murata.com/inductor/product/LQG15HS27NJ02%23.html; Height: 0.55mm; Mouser Part Number: 81-LQG15HS27NJ02D; Mouser Price/Stock: https://www.mouser.co.uk/ProductDetail/Murata-Electronics/LQG15HS27NJ02D?qs=ctz47l0uL1AbPpSO0oLF1A%3D%3D; Arrow Part Number: LQG15HS27NJ02D; Arrow Price/Stock: https://www.arrow.com/en/products/lqg15hs27nj02d/murata-manufacturing?region=nac
footprint LQW15AN10NG80D
pins: 1, 2

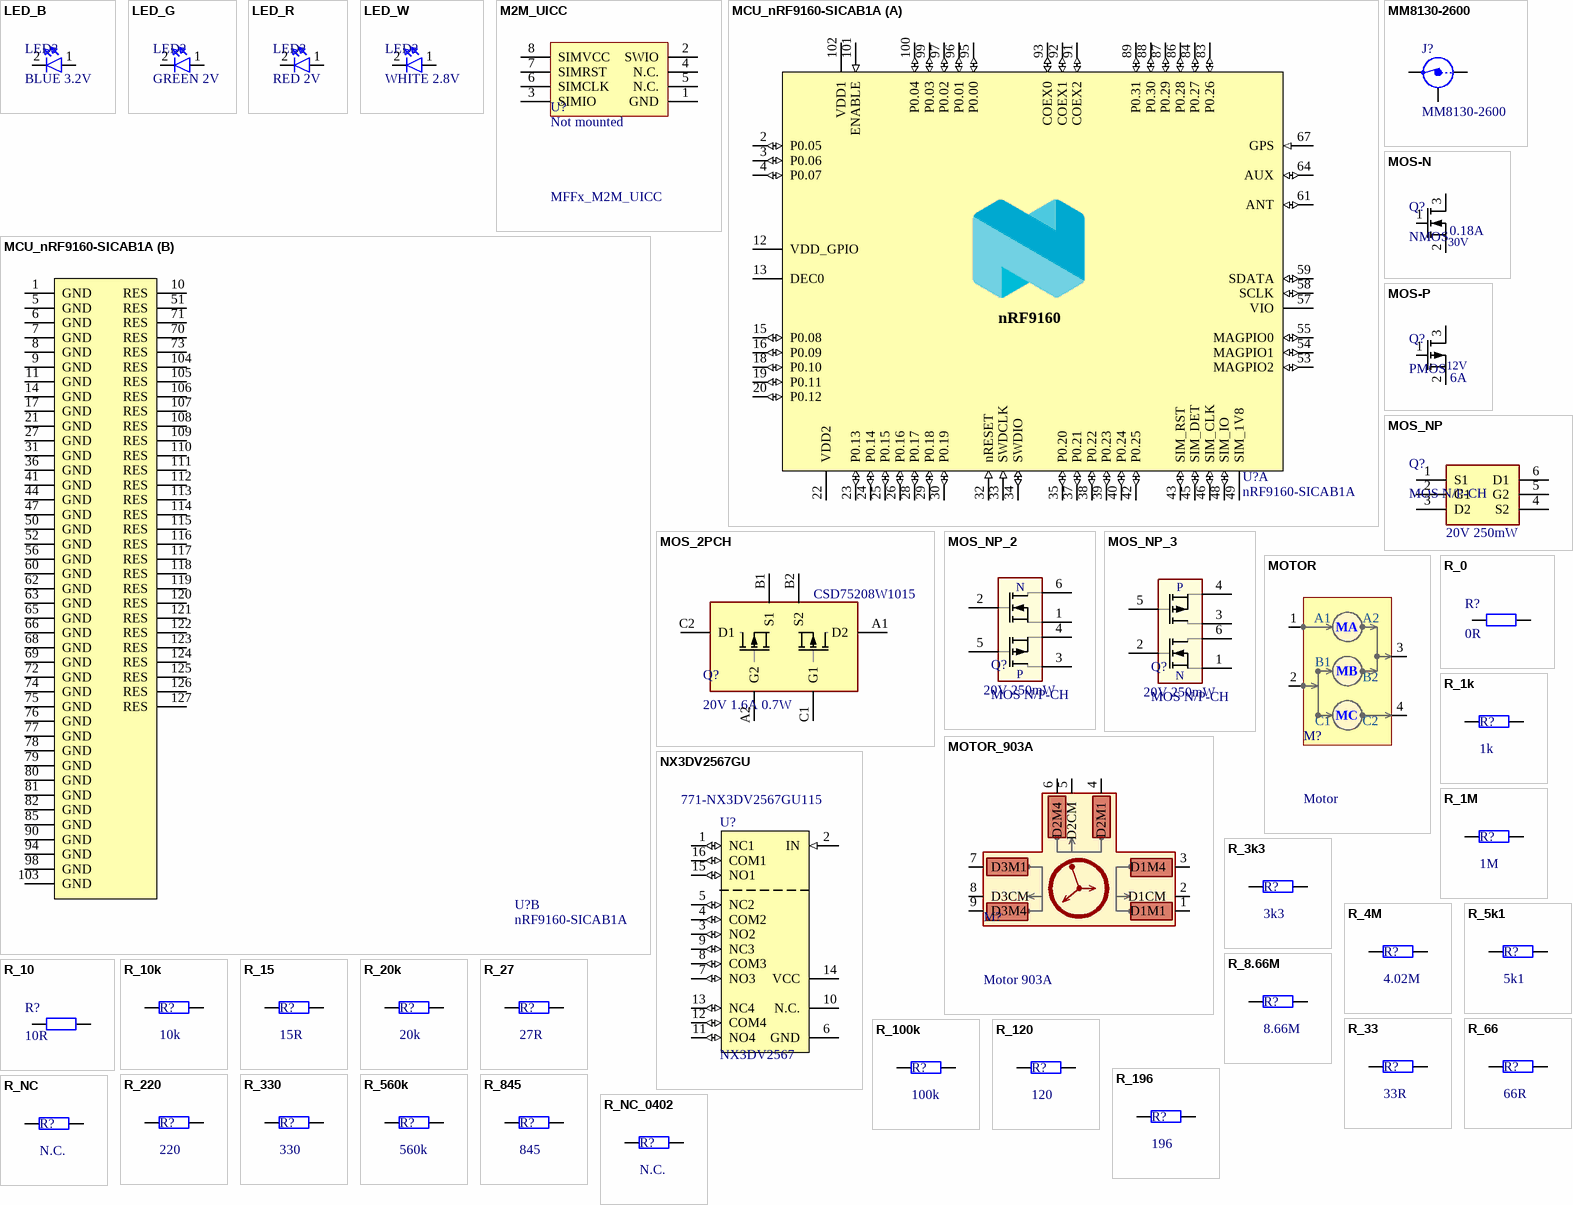
[diagram p2: symbols LED_B to R_NC_0402]

## LED_B
designator LED?, comment BLUE 3.2V
Blue 470nm LED Indication - Discrete 3.2V 0603 (1608 Metric); Manufacturer_Name: Würth Elektronik; Manufacturer_Part_Number: 150060BS75000; Datasheet Link: http://www.qt-brightek.com/datasheet/QBLP617_series.pdf; Height: 1.3mm; Supplier 1: Digi-Key; Supplier Part Number 1: 732-4966-1-ND; Unit Price: 0.17
footprint LEDC1608X80N
pins: 1 A, 2 K

## LED_G
designator LED?, comment GREEN 2V
Green 570nm LED Indication - Discrete 2V 0603 (1608 Metric); Manufacturer_Name: QT Brightek (QTB); Manufacturer_Part_Number: 150060VS75000; Datasheet Link: http://www.qt-brightek.com/datasheet/QBLP617_series.pdf; Height: 1.3mm; Supplier 1: Digi-Key; Supplier Part Number 1: 732-4980-1-ND; Unit Price: 0.15
footprint LEDC1608X80N
pins: 1 A, 2 K

## LED_R
designator LED?, comment RED 2V
Red 625nm LED Indication - Discrete 2V 0603 (1608 Metric); Manufacturer_Name: QT Brightek (QTB); Manufacturer_Part_Number: 150060RS75000; Datasheet Link: http://www.qt-brightek.com/datasheet/QBLP617_series.pdf; Height: 1.3mm; Supplier 1: Digi-Key; Supplier Part Number 1: 732-4978-1-ND; Unit Price: 0.15
footprint LEDC1608X80N
pins: 1 A, 2 K

## LED_W
designator LED?, comment WHITE 2.8V
White LED Indication - Discrete 2.8V 0603 (1608 Metric); Manufacturer_Name: QT Brightek (QTB); Manufacturer_Part_Number: IN-S63AT5UW; Datasheet Link: http://www.qt-brightek.com/datasheet/QBLP617_series.pdf; Height: 1.3mm; Supplier 1: Digi-Key; Supplier Part Number 1: 1830-1063-1-ND; Unit Price: 0.33
footprint LEDC1608X80N
pins: 1 A, 2 K

## M2M_UICC
designator U?, comment MFFx_M2M_UICC  Assembly: Not mounted
M2M UICC SIM Card; Manufacturer: N.A.; Pad Count: 8; Part Number: M2M_UICC; Manufacturer Part Number: N.A.; Value: M2M UICC; Footprint Doc: SON-8; Artikkelnr Noca: N.A.; ComponentLink1Description: Datasheet; ComponentLink1URL: N.A.; ComponentLink2Description: Supplier link; ComponentLink2URL: N.A.; HelpURL: N.A.; LatestRevisionDate: 2019-10-22; Note: N.A.; Part number IPS: N.A.; Published: 2019-10-22; Supplier 1: N.A.; Supplier 2: N.A.; Supplier Part Number 1: N.A.; Supplier Part Number 2: N.A.; PartId: 101900595; Component Class: Misc_ICs
footprint SON127P600X90_HS-8N
pins: 1 GND, 2 SWIO, 3 SIMIO, 4 N.C., 5 N.C., 6 SIMCLK, 7 SIMRST, 8 SIMVCC

## MCU_nRF9160-SICAB1A
designator U?, comment nRF9160-SICAB1A
Low power System-in-Package with integrated LTE-M/NB-IoT modem and GPS; Manufacturer_Name: Nordic Semiconductor; Manufacturer Part Number: nRF9160-SICAB1A; Value: nRF9160-SICAB1A; ComponentLink1URL: N.A.; ComponentLink1Description: Datasheet; ComponentLink2URL: N.A.; ComponentLink2Description: Supplier link; Supplier 1: Digi-Key; Unit Price: 31.40; Supplier Part Number 1: 1490-NRF9160-SICA-B1A-R7CT-ND
footprint LGA50P1600X1050X104-161N
part A pins: 2 P0.05 (io), 3 P0.06 (io), 4 P0.07 (io), 12 VDD_GPIO (power), 13 DEC0 (power), 15 P0.08 (io), 16 P0.09 (io), 18 P0.10 (io), 19 P0.11 (io), 20 P0.12 (io), 22 VDD2 (power), 23 P0.13 (io), 24 P0.14 (io), 25 P0.15 (io), 26 P0.16 (io), 28 P0.17 (io), 29 P0.18 (io), 30 P0.19 (io), 32 nRESET (in), 33 SWDCLK (in), 34 SWDIO (io), 35 P0.20 (io), 37 P0.21 (io), 38 P0.22 (io), 39 P0.23 (io), 40 P0.24 (io), 42 P0.25 (io), 43 SIM_RST (io), 45 SIM_DET (io), 46 SIM_CLK (io), 48 SIM_IO (io), 49 SIM_1V8 (power), 53 MAGPIO2 (io), 54 MAGPIO1 (io), 55 MAGPIO0 (io), 57 VIO (power), 58 SCLK (io), 59 SDATA (io), 61 ANT (io), 64 AUX (io), 67 GPS (in), 83 P0.26 (io), 84 P0.27 (io), 86 P0.28 (io), 87 P0.29 (io), 88 P0.30 (io), 89 P0.31 (io), 91 COEX2 (io), 92 COEX1 (io), 93 COEX0 (io), 95 P0.00 (io), 96 P0.01 (io), 97 P0.02 (io), 99 P0.03 (io), 100 P0.04 (io), 101 ENABLE (in), 102 VDD1 (power)
part B pins: 1 GND (power), 5 GND (power), 6 GND, 7 GND, 8 GND, 9 GND (power), 10 RES, 11 GND, 14 GND (power), 17 GND (power), 21 GND (power), 27 GND (power), 31 GND (power), 36 GND (power), 41 GND (power), 44 GND (power), 47 GND (power), 50 GND (power), 51 RES, 52 GND (power), 56 GND (power), 60 GND (power), 62 GND (power), 63 GND (power), 65 GND (power), 66 GND (power), 68 GND, 69 GND, 70 RES, 71 RES, 72 GND (power), 73 RES, 74 GND (power), 75 GND (power), 76 GND (power), 77 GND (power), 78 GND (power), 79 GND (power), 80 GND (power), 81 GND (power), 82 GND (power), 85 GND (power), 90 GND (power), 94 GND (power), 98 GND (power), 103 GND (power), 104 RES, 105 RES, 106 RES, 107 RES, 108 RES, 109 RES, 110 RES, 111 RES, 112 RES, 113 RES, 114 RES, 115 RES, 116 RES, 117 RES, 118 RES, 119 RES, 120 RES, 121 RES, 122 RES, 123 RES, 124 RES, 125 RES, 126 RES, 127 RES
part A text: nRF9160

## MM8130-2600
designator J?
Coaxial Connector with Switch; Manufacturer: Murata; Manufacturer Part Number: MM8130-2600; Value: MM8130-2600; ComponentLink1URL: N.A.; ComponentLink1Description: Datasheet; ComponentLink2URL: N.A.; ComponentLink2Description: Supplier link; Supplier 1: Digi-Key; Supplier Part Number 1: 490-4981-1-ND; Unit Price: 0.34
footprint COAXIAL-SWF
footprint COAXIAL-SWF - GNSS
footprint COAXIAL-SWF - LTE
pins: 1 IN, 2 Shield, 3 OUT

## MOS-N
designator Q?, comment NMOS  value 30V  Value2: 0.18A
N-Channel 30 V 180mA (Ta) 260mW (Ta), 1.1W (Tc) Surface Mount SOT-323; Manufacturer_Name: NXP; Manufacturer_Part_Number: NX3020NAKW; Datasheet Link: https://datasheetspdf.com/pdf-file/1379402/nexperia/NX3020NAKW/1; Height: 1.1mm; Supplier 1: Digi-Key; Supplier Part Number 1: 1727-1288-1-ND; Unit Price: 0.30
footprint SOT65P210X110-3N
pins: 1 G, 2 S, 3 D

## MOS-P
designator Q?, comment PMOS  value 12V  Value2: 6A
P-Channel 12 V 6A (Ta) 1W (Ta) Surface Mount SOT-23F; Manufacturer_Name: Toshiba; Manufacturer_Part_Number: SSM3J338R; Datasheet Link: http://toshiba.semicon-storage.com/info/docget.jsp?did=30384&prodName=SSM3J338R; Supplier 1: Digi-Key; Supplier Part Number 1: SSM3J338RLFCT-ND; Unit Price: 0.38
footprint SSM3J332RLFT
pins: 1 G, 2 S, 3 D

## MOS_2PCH
designator Q?, comment 20V 1.6A 0.7W  Manufacturer_Part_Number: CSD75208W1015
Mosfet Array 2 P-Channel (Dual) Common Source 20V 1.6A 750mW Surface Mount 6-DSBGA (1x1.5); Manufacturer_Name: Texas Instruments; Datasheet Link: http://www.ti.com/lit/ds/symlink/csd75208w1015.pdf; Height: 0.625mm; Value: 20V 1.6A 0.7W; Supplier 1: Digi-Key; Supplier Part Number 1: 296-38339-1-ND; Unit Price: 0.60
footprint BGA6C50P2X3_95X145X62
pins: A1 D2, A2 G2, B1 S1, B2 S2, C1 G1, C2 D1

## MOS_NP
designator Q?, comment MOS N/P-CH  value 20V 250mW
Mosfet Array N and P-Channel 20V 485mA, 370mA 250mW Surface Mount SC-89 (SOT-563F); Manufacturer_Name: Vishay; Manufacturer_Part_Number: SI1016X-T1-GE3; Datasheet Link: https://componentsearchengine.com/Datasheets/1/SI1016X-T1-GE3.pdf; Height: 0.6mm; Supplier 1: Digi-Key; Supplier Part Number 1: SI1016X-T1-GE3CT-ND; Unit Price: 0.48
footprint SOT50P160X60-6N
pins: 1 S1, 2 G1, 3 D2, 4 S2, 5 G2, 6 D1

## MOS_NP_2
designator Q?, comment MOS N/P-CH  value 20V 250mW
Mosfet Array N and P-Channel 20V 485mA, 370mA 250mW Surface Mount SC-89 (SOT-563F); Manufacturer_Name: Vishay; Manufacturer_Part_Number: SI1016X-T1-GE3; Datasheet Link: https://componentsearchengine.com/Datasheets/1/SI1016X-T1-GE3.pdf; Height: 0.6mm; Supplier 1: Digi-Key; Supplier Part Number 1: SI1016X-T1-GE3CT-ND; Unit Price: 0.48
footprint SOT50P160X60-6N
pins: 1 S1, 2 G1, 3 D2, 4 S2, 5 G2, 6 D1
text: N; P

## MOS_NP_3
designator Q?, comment MOS N/P-CH  value 20V 250mW
Mosfet Array N and P-Channel 20V 485mA, 370mA 250mW Surface Mount SC-89 (SOT-563F); Manufacturer_Name: Vishay; Manufacturer_Part_Number: SI1016X-T1-GE3; Datasheet Link: https://componentsearchengine.com/Datasheets/1/SI1016X-T1-GE3.pdf; Height: 0.6mm; Supplier 1: Digi-Key; Supplier Part Number 1: SI1016X-T1-GE3CT-ND; Unit Price: 0.48
footprint SOT50P160X60-6N
pins: 1 S1, 2 G1, 3 D2, 4 S2, 5 G2, 6 D1
text: P; N

## MOTOR
designator M?, comment Motor  (mechanical)
Titan C3H Motor (3 Hands-1° Bi-Directional) Metal; LatestRevisionDate: 17-Jul-2002; LatestRevisionNote: Re-released for DXP Platform.; Publisher: Altium Limited
footprint HDR1X4 - MOTOR (Connector; Header; 3 Position)
signal-integrity model Connector
pins: 1 A1, 2 AB2, 3 BC1, 4 C2
text: MA; A2; B1; MB; B2; MC; C1

## MOTOR_903A
designator M?, comment Motor 903A  (mechanical)
Titan 903A : 3 Hands Bidirectional, independent motor; Assembly: Not Mounted; LatestRevisionDate: 17-Jul-2002; LatestRevisionNote: Re-released for DXP Platform.; Publisher: Altium Limited
footprint MOTOR (Titan 903A : 3 Hands Bidirectional, independent motor)
pins: 1 D1M1, 2 D1CM, 3 D1M4, 4 D2M1, 5 D2CM, 6 D2M4, 7 D3M1, 8 D3CM, 9 D3M4

## NX3DV2567GU
designator U?, comment NX3DV2567  Supplier Part Number 1: 771-NX3DV2567GU115
Low-ohmic four-pole double-throw analog switch; Manufacturer_Name: NXP Semiconductors; Manufacturer Part Number: NX3DV2567GU; Value: NX3DV2567; ComponentLink1URL: N.A.; ComponentLink1Description: Datasheet; ComponentLink2URL: N.A.; ComponentLink2Description: Supplier link; Supplier 1: Mouser; Unit Price: 0.92
footprint XQFN40P180X260X50-16N
pins: 1 NC1 (io), 2 IN (in), 3 NO2 (io), 4 COM2 (io), 5 NC2 (io), 6 GND (power), 7 NO3 (io), 8 COM3 (io), 9 NC3 (io), 10 N.C., 11 NO4 (io), 12 COM4 (io), 13 NC4 (io), 14 VCC (power), 15 NO1 (io), 16 COM1 (io)

## R_0
designator R?, comment 0R
0 Ohms Jumper 0.1W, 1/10W Chip Resistor 0603 (1608 Metric) Moisture Resistant Thick Film; Manufacturer_Part_Number: RC0603JR-070RL; Manufacturer_Name: YAGEO; Supplier 1: Digi-Key; Supplier Part Number 1: 311-0.0GRCT-ND; Value: 0R; Unit Price: 0.10
footprint RESC2012X60N
pins: 1, 2

## R_1k
designator R?, comment 1k
1 kOhms ±1% 0.1W, 1/10W Chip Resistor 0603 (1608 Metric) Moisture Resistant Thick Film; Manufacturer_Part_Number: RC0603FR-071KL; Manufacturer_Name: YAGEO; Value: 1k; Supplier 1: Digi-Key; Supplier Part Number 1: 311-1.00KHRCT-ND; Unit Price: 0.10
footprint RES0603 (SMD 0603)
pins: 1, 2

## R_1M
designator R?, comment 1M
1 MOhms ±1% 0.1W, 1/10W Chip Resistor 0603 (1608 Metric) Automotive AEC-Q200 Thick Film; Manufacturer_Part_Number: ERJ-3EKF1004V; Manufacturer_Name: YAGEO; Value: 1M; Supplier 1: Digi-Key; Supplier Part Number 1: P1.00MHCT-ND; Unit Price: 0.10
footprint RES0603 (SMD 0603)
pins: 1, 2

## R_3k3
designator R?, comment 3k3
3.3 kOhms ±1% 0.1W, 1/10W Chip Resistor 0603 (1608 Metric) Moisture Resistant Thick Film; Manufacturer_Part_Number: RC0603FR-103K3L; Manufacturer_Name: YAGEO; Value: 3k3; Supplier 1: Digi-Key; Supplier Part Number 1: 13-RC0603FR-103K3LCT-ND; Unit Price: 0.10
footprint RES0603 (SMD 0603)
pins: 1, 2

## R_4M
designator R?, comment 4.02M
4.02 MOhms ±1% 0,1W, 1/10W Pavé résistif 0603 (1608 métrique) Résistant à l’humidité Couche épaisse; Manufacturer_Part_Number: RC0603FR-074M02L; Manufacturer_Name: YAGEO; Value: 4.02M; Supplier 1: Digi-Key; Supplier Part Number 1: YAG5698CT-ND; Unit Price: 0.10
footprint RES0603 (SMD 0603)
pins: 1, 2

## R_5k1
designator R?, comment 5k1
5.1 kOhms ±1% 0.1W, 1/10W Chip Resistor 0603 (1608 Metric) Moisture Resistant Thick Film; Manufacturer_Part_Number: RC0603FR-075K1L; Manufacturer_Name: YAGEO; Value: 5k1; Supplier 1: Digi-Key; Supplier Part Number 1: 311-5.10KHRDKR-ND; Unit Price: 0.10
footprint RES0603 (SMD 0603)
pins: 1, 2

## R_8.66M
designator R?, comment 8.66M
8.66 MOhms ±1% 0,1W, 1/10W Pavé résistif 0603 (1608 métrique) AutomobileAEC-Q200 Couche épaisse; Manufacturer_Part_Number: CRCW06038M66FKEA; Manufacturer_Name: YAGEO; Value: 8.66M; Supplier 1: Digi-Key; Supplier Part Number 1: 541-8.66MHCT-ND; Unit Price: 0.10
footprint RES0603 (SMD 0603)
pins: 1, 2

## R_10
designator R?, comment 10R
10 Ohms ±5% 0.25W, 1/4W Chip Resistor 0805 (2012 Metric) Automotive AEC-Q200 Thick Film; Manufacturer_Part_Number: RK73B2ATTD100J; Manufacturer_Name: YAGEO; Supplier 1: Digi-Key; Supplier Part Number 1: 2019-RK73B2ATTD100JCT-ND; Unit Price: 0.10; Value: 10R
footprint RESC2012X60N
pins: 1, 2

## R_10k
designator R?, comment 10k
10 kOhms ±1% 0.1W, 1/10W Chip Resistor 0603 (1608 Metric) Moisture Resistant Thick Film; Manufacturer_Part_Number: RC0805FR-0710KL; Manufacturer_Name: YAGEO; Value: 10k; Supplier 1: Digi-Key; Supplier Part Number 1: 311-10.0KHRCT-ND; Unit Price: 0..10
footprint RES0603 (SMD 0603)
pins: 1, 2

## R_15
designator R?, comment 15R
15 Ohms ±1% 0.1W, 1/10W Chip Resistor 0603 (1608 Metric) Moisture Resistant Thick Film; Manufacturer_Part_Number: RC0603FR-0715RL; Manufacturer_Name: YAGEO; Value: 15R; Unit Price: 0.10; Supplier 1: Digi-Key; Supplier Part Number 1: 311-15.0HRTR-ND
footprint RES0603 (SMD 0603)
pins: 1, 2

## R_20k
designator R?, comment 20k
20 kOhms ±1% 0.1W, 1/10W Chip Resistor 0603 (1608 Metric) Moisture Resistant Thick Film; Manufacturer_Part_Number: RC0805FR-0710KL; Manufacturer_Name: YAGEO; Value: 20k; Supplier 1: Digi-Key; Supplier Part Number 1: 311-20.0KHRCT-ND; Unit Price: 0.10
footprint RES0603 (SMD 0603)
pins: 1, 2

## R_27
designator R?, comment 27R
27 Ohms ±1% 0.1W, 1/10W Chip Resistor 0603 (1608 Metric) Automotive AEC-Q200 Thick Film; Manufacturer_Part_Number: ERJ-3EKF27R0V; Manufacturer_Name: YAGEO; Value: 27R; Supplier 1: Digi-Key; Supplier Part Number 1: P27.0HCT-ND; Unit Price: 0.10
footprint RES0603 (SMD 0603)
pins: 1, 2

## R_33
designator R?, comment 33R
33 Ohms ±1% 0.1W, 1/10W Chip Resistor 0603 (1608 Metric) Thin Film; Manufacturer_Part_Number: RT0603FRE0733RL; Manufacturer_Name: YAGEO; Value: 33R; Supplier 1: Digi-Key; Supplier Part Number 1: 13-RT0603FRE0733RLCT-ND; Unit Price: 0.10
footprint RES0603 (SMD 0603)
pins: 1, 2

## R_66
designator R?, comment 66R
66.5 Ohms ±1% 0.1W, 1/10W Chip Resistor 0603 (1608 Metric) Moisture Resistant Thick Film; Manufacturer_Part_Number: RC0603FR-0766R5L; Manufacturer_Name: YAGEO; Value: 66R; Unit Price: 0.10; Supplier 1: Digi-Key; Supplier Part Number 1: 311-66.5HRCT-ND
footprint RES0603 (SMD 0603)
pins: 1, 2